# Altium footprint library SC_DS2E-M-DC5V.PcbLib: 1 footprints
Each footprint in its own frame and in the unit in brackets; x right, y up, seen from the top. Pads: shape width x height; smd on the part's side, far side on the other; paste and mask are expansions set on the pad; w line width, h text height; cw(c..) or ccw(c..) is an arc to the next point about the centre after c.
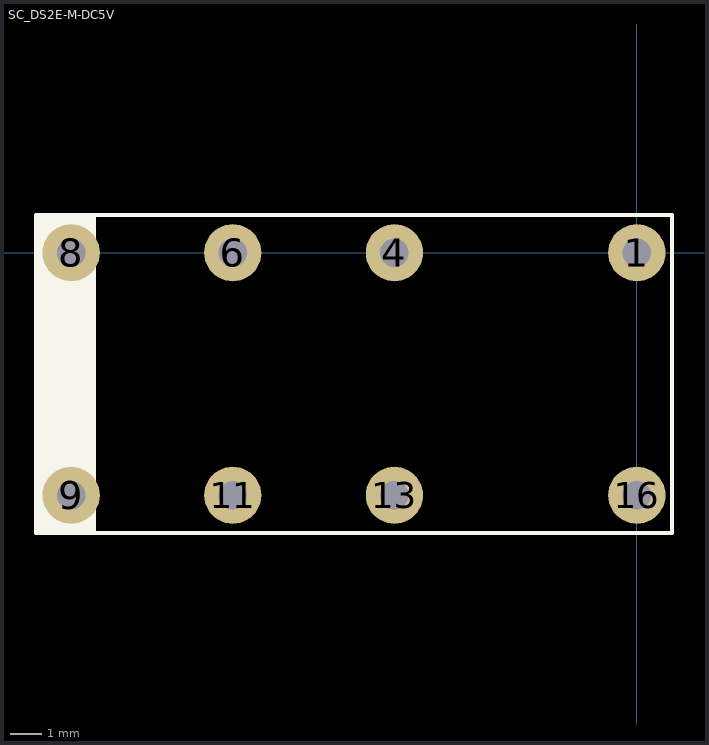
[diagram p0: the footprint, top view; thin cyan lines are the x and y axes]

## SC_DS2E-M-DC5V [mm] "2 form C relay, 250Vac/30Vdc/2A"
pads (8):
  round 1.8 hole 0.9: 1(0,0) 4(-7.62,0) 6(-12.7,0) 8(-17.78,0) 9(-17.78,-7.62) 11(-12.7,-7.62) 13(-7.62,-7.62) 16(0,-7.62)
Top Overlay:
  region: -18.89,1.19 -17,1.19 -17,-8.81 -18.89,-8.81
  lines w0.127: -18.89,-8.81 -18.89,1.19 1.11,1.19 1.11,-8.81 -18.89,-8.81
3D body: height 10, standoff 0, extent -18.954,-8.874 1.174,1.254